# Altium integrated library TI Amplifiers and Linear Special Function Amplifier.IntLib: 708 symbols (part 23 of 47)
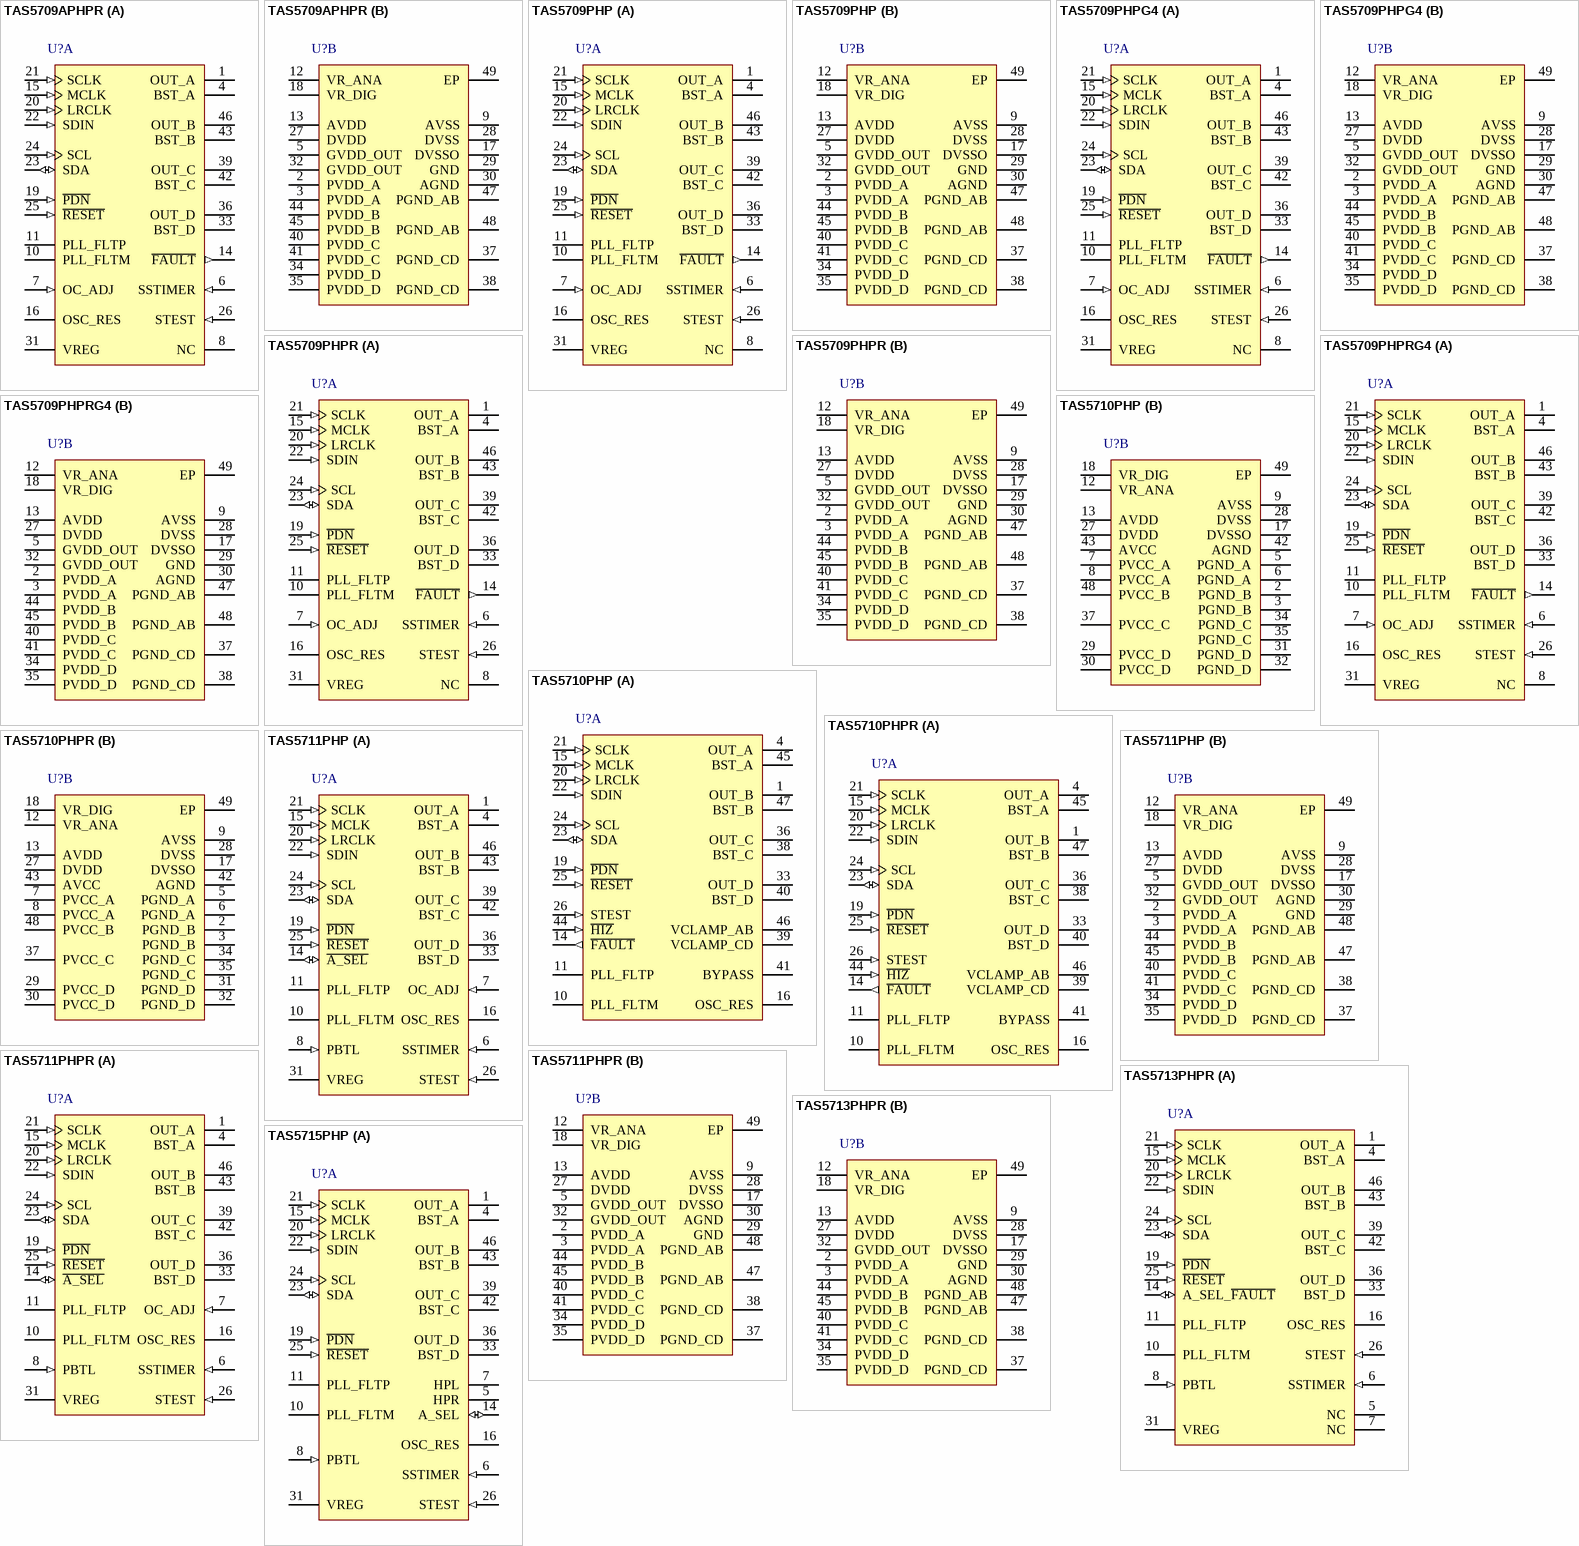
[diagram p61: symbols TAS5709APHPR to TAS5715PHP]

## TAS5711PHP
designator U?
20 W Stereo I2S Audio Amplifier with Speaker EQ, DRC, and 2.1 Support, 0 to 85 degC, 48-pin QFP (PHP48), Green (RoHS & no Sb/Br); Manufacturer: Texas Instruments; PartNumber: TAS5711PHP; Analog Supply Max [V]: 3.6; Analog Supply Min [V]: 3; Input Type: Digital; Power Stage Supply Min(V): 8; SubFamily: Mid/High-Power Amplifier; DatasheetVersion: SLOS600A; PackageVersion: 4146927/B, 08/2003; PackageReference: PHP48-4550X3600TP; PackageDescription: 48-Pin PowerPAD(TM) Plastic Quad Flatpack, Body 7 x 7 mm, Pitch 0.5 mm; Supplier 1: Digi-Key; Supplier Part Number 1: 296-32732-ND; Supplier 2: Farnell; Supplier Part Number 2: 1815744; Supplier 3: Newark; Supplier Part Number 3: 60R2429; Supplier 4: Mouser; Supplier Part Number 4: 595-TAS5711PHP; Digital Supply Min [V]: 3; Eco-Plan: Green (RoHS & no Sb/Br); Max. Number of Speaker Outputs: 3; Mounting Technology: Surface Mount; Code_JEDEC: MS-026; ComponentLink1Description: Manufacturer URL; ComponentLink1URL: http://www.ti.com/; ComponentLink2Description: Datasheet; ComponentLink2URL: http://www.ti.com/general/docs/lit/getliterature.tsp?genericPartNumber=TAS5711&fileType=pdf; ComponentLink3Description: Package Specification; ComponentLink3URL: http://www.ti.com/litv/pdf/mpdi001b
footprint TI-PHP48-4550X3600TP_N (QFP, 48-Leads, Body 7x7mm, Pitch 0.5mm, Thermal Pad 5.17x4.04mm, IPC Medium Density)
footprint TI-PHP48-4550X3600TP_L (QFP, 48-Leads, Body 7x7mm, Pitch 0.5mm, Thermal Pad 5.17x4.04mm, IPC High Density)
footprint TI-PHP48-4550X3600TP_M (QFP, 48-Leads, Body 7x7mm, Pitch 0.5mm, Thermal Pad 5.17x4.04mm, IPC Low Density)
part A pins: 1 OUT_A (hiz) "Output, half-bridge A", 4 BST_A "High-side bootstrap supply for half-bridge A", 6 SSTIMER (in) "Controls ramp time of OUT_x to minimize pop. Leave this pin floating for BD mode. Requires capacitor of 2.2 nF to GND in AD mode. The capacitor determines the ramp time.", 7 OC_ADJ (in) "Analog overcurrent programming. Requires resistor to ground.", 8 PBTL (in) "Low means BTL or SE mode; high means PBTL mode. Information goes directly to power stage.", 10 PLL_FLTM "PLL negative loop filter terminal", 11 PLL_FLTP "PLL positive loop filter terminal", 14 ~{A_SEL} (io) "A value of 0 (15-kohm pulldown) makes the I2C device address 0x34, and a value of 1 (15-kohm pullup) makes it 0x36. This pin can be programmed after RESET to be an output by writing 1 to bit 0 of I2C register 0x05. In that (See Datasheet)", 15 MCLK (in) "Master clock input", 16 OSC_RES "Oscillator trim resistor. Connect an 18.2-kohm 1% resistor to DVSSO.", 19 ~{PDN} (in) "Power down, active-low. P\D\N\ prepares the device for loss of power supplies by shutting down the Noise Shaper and initiating PWM stop sequence.", 20 LRCLK (in) "Input serial audio data left/right clock (sample rate clock)", 21 SCLK (in) "Serial audio data clock (shift clock). SCLK is the serial audio port input data bit clock.", 22 SDIN (in) "Serial audio data input. SDIN supports three discrete (stereo) data formats.", 23 SDA (io) "I2C serial control data interface input/output", 24 SCL (in) "I2C serial control clock input", 25 ~{RESET} (in) "Reset, active-low. A system reset is generated by applying a logic low to this pin. R\E\S\E\T\ is an asynchronous control signal that restores the DAP to its default conditions, and places the PWM in the hard mute state (See Datasheet)", 26 STEST (in) "Factory test pin. Connect directly to DVSS.", 31 VREG "Digital regulator output. Not to be used for powering external circuitry.", 33 BST_D "High-side bootstrap supply for half-bridge D", 36 OUT_D (hiz) "Output, half-bridge D", 39 OUT_C (hiz) "Output, half-bridge C", 42 BST_C "High-side bootstrap supply for half-bridge C", 43 BST_B "High-side bootstrap supply for half-bridge B", 46 OUT_B (hiz) "Output, half-bridge B"
part B pins: 2 PVDD_A (power) "Power supply input for half-bridge output A", 3 PVDD_A (power) "Power supply input for half-bridge output A", 5 GVDD_OUT (power) "Gate drive internal regulator output. This pin must not be used to drive external devices.", 9 AVSS (power) "Analog 3.3-V supply ground", 12 VR_ANA (power) "Internally regulated 1.8-V analog supply voltage. This pin must not be used to power external devices.", 13 AVDD (power) "3.3-V analog power supply", 17 DVSSO (power) "Oscillator ground", 18 VR_DIG (power) "Internally regulated 1.8-V digital supply voltage. This pin must not be used to power external devices.", 27 DVDD (power) "3.3-V digital power supply", 28 DVSS (power) "Digital ground", 29 GND (power) "Analog ground for power stage", 30 AGND (power) "Analog ground for power stage", 32 GVDD_OUT (power) "Gate drive internal regulator output. This pin must not be used to drive external devices.", 34 PVDD_D (power) "Power supply input for half-bridge output D", 35 PVDD_D (power) "Power supply input for half-bridge output D", 37 PGND_CD (power) "Power ground for half-bridges C and D", 38 PGND_CD (power) "Power ground for half-bridges C and D", 40 PVDD_C (power) "Power supply input for half-bridge output C", 41 PVDD_C (power) "Power supply input for half-bridge output C", 44 PVDD_B (power) "Power supply input for half-bridge output B", 45 PVDD_B (power) "Power supply input for half-bridge output B", 47 PGND_AB (power) "Power ground for half-bridges A and B", 48 PGND_AB (power) "Power ground for half-bridges A and B", 49 EP

## TAS5711PHPR
designator U?
20 W Stereo I2S Audio Amplifier with Speaker EQ, DRC, and 2.1 Support, 0 to 85 degC, 48-pin QFP (PHP48), Green (RoHS & no Sb/Br); Manufacturer: Texas Instruments; PartNumber: TAS5711PHPR; Analog Supply Max [V]: 3.6; Analog Supply Min [V]: 3; Input Type: Digital; Power Stage Supply Min(V): 8; SubFamily: Mid/High-Power Amplifier; DatasheetVersion: SLOS600A; PackageVersion: 4146927/B, 08/2003; PackageReference: PHP48-4550X3600TP; PackageDescription: 48-Pin PowerPAD(TM) Plastic Quad Flatpack, Body 7 x 7 mm, Pitch 0.5 mm; Supplier 1: Digi-Key; Supplier Part Number 1: 296-25564-2-ND; Supplier 2: Digi-Key; Supplier Part Number 2: 296-25564-1-ND; Supplier 3: Digi-Key; Supplier Part Number 3: 296-25564-6-ND; Supplier 4: Newark; Supplier Part Number 4: 64R0655; Supplier 5: Mouser; Supplier Part Number 5: 595-TAS5711PHPR; Digital Supply Min [V]: 3; Eco-Plan: Green (RoHS & no Sb/Br); Max. Number of Speaker Outputs: 3; Mounting Technology: Surface Mount; Code_JEDEC: MS-026; ComponentLink1Description: Manufacturer URL; ComponentLink1URL: http://www.ti.com/; ComponentLink2Description: Datasheet; ComponentLink2URL: http://www.ti.com/general/docs/lit/getliterature.tsp?genericPartNumber=TAS5711&fileType=pdf; ComponentLink3Description: Package Specification; ComponentLink3URL: http://www.ti.com/litv/pdf/mpdi001b
footprint TI-PHP48-4550X3600TP_N (QFP, 48-Leads, Body 7x7mm, Pitch 0.5mm, Thermal Pad 5.17x4.04mm, IPC Medium Density)
footprint TI-PHP48-4550X3600TP_L (QFP, 48-Leads, Body 7x7mm, Pitch 0.5mm, Thermal Pad 5.17x4.04mm, IPC High Density)
footprint TI-PHP48-4550X3600TP_M (QFP, 48-Leads, Body 7x7mm, Pitch 0.5mm, Thermal Pad 5.17x4.04mm, IPC Low Density)
part A pins: 1 OUT_A (hiz) "Output, half-bridge A", 4 BST_A "High-side bootstrap supply for half-bridge A", 6 SSTIMER (in) "Controls ramp time of OUT_x to minimize pop. Leave this pin floating for BD mode. Requires capacitor of 2.2 nF to GND in AD mode. The capacitor determines the ramp time.", 7 OC_ADJ (in) "Analog overcurrent programming. Requires resistor to ground.", 8 PBTL (in) "Low means BTL or SE mode; high means PBTL mode. Information goes directly to power stage.", 10 PLL_FLTM "PLL negative loop filter terminal", 11 PLL_FLTP "PLL positive loop filter terminal", 14 ~{A_SEL} (io) "A value of 0 (15-kohm pulldown) makes the I2C device address 0x34, and a value of 1 (15-kohm pullup) makes it 0x36. This pin can be programmed after RESET to be an output by writing 1 to bit 0 of I2C register 0x05. In that (See Datasheet)", 15 MCLK (in) "Master clock input", 16 OSC_RES "Oscillator trim resistor. Connect an 18.2-kohm 1% resistor to DVSSO.", 19 ~{PDN} (in) "Power down, active-low. P\D\N\ prepares the device for loss of power supplies by shutting down the Noise Shaper and initiating PWM stop sequence.", 20 LRCLK (in) "Input serial audio data left/right clock (sample rate clock)", 21 SCLK (in) "Serial audio data clock (shift clock). SCLK is the serial audio port input data bit clock.", 22 SDIN (in) "Serial audio data input. SDIN supports three discrete (stereo) data formats.", 23 SDA (io) "I2C serial control data interface input/output", 24 SCL (in) "I2C serial control clock input", 25 ~{RESET} (in) "Reset, active-low. A system reset is generated by applying a logic low to this pin. R\E\S\E\T\ is an asynchronous control signal that restores the DAP to its default conditions, and places the PWM in the hard mute state (See Datasheet)", 26 STEST (in) "Factory test pin. Connect directly to DVSS.", 31 VREG "Digital regulator output. Not to be used for powering external circuitry.", 33 BST_D "High-side bootstrap supply for half-bridge D", 36 OUT_D (hiz) "Output, half-bridge D", 39 OUT_C (hiz) "Output, half-bridge C", 42 BST_C "High-side bootstrap supply for half-bridge C", 43 BST_B "High-side bootstrap supply for half-bridge B", 46 OUT_B (hiz) "Output, half-bridge B"
part B pins: 2 PVDD_A (power) "Power supply input for half-bridge output A", 3 PVDD_A (power) "Power supply input for half-bridge output A", 5 GVDD_OUT (power) "Gate drive internal regulator output. This pin must not be used to drive external devices.", 9 AVSS (power) "Analog 3.3-V supply ground", 12 VR_ANA (power) "Internally regulated 1.8-V analog supply voltage. This pin must not be used to power external devices.", 13 AVDD (power) "3.3-V analog power supply", 17 DVSSO (power) "Oscillator ground", 18 VR_DIG (power) "Internally regulated 1.8-V digital supply voltage. This pin must not be used to power external devices.", 27 DVDD (power) "3.3-V digital power supply", 28 DVSS (power) "Digital ground", 29 GND (power) "Analog ground for power stage", 30 AGND (power) "Analog ground for power stage", 32 GVDD_OUT (power) "Gate drive internal regulator output. This pin must not be used to drive external devices.", 34 PVDD_D (power) "Power supply input for half-bridge output D", 35 PVDD_D (power) "Power supply input for half-bridge output D", 37 PGND_CD (power) "Power ground for half-bridges C and D", 38 PGND_CD (power) "Power ground for half-bridges C and D", 40 PVDD_C (power) "Power supply input for half-bridge output C", 41 PVDD_C (power) "Power supply input for half-bridge output C", 44 PVDD_B (power) "Power supply input for half-bridge output B", 45 PVDD_B (power) "Power supply input for half-bridge output B", 47 PGND_AB (power) "Power ground for half-bridges A and B", 48 PGND_AB (power) "Power ground for half-bridges A and B", 49 EP

## TAS5713PHPR
designator U?
25 W Stereo I2S Audio Amplifier with Speaker EQ and 2-Band DRC, 0 to 85 degC, 48-pin QFP (PHP48), Green (RoHS & no Sb/Br); Manufacturer: Texas Instruments; PartNumber: TAS5713PHPR; Analog Supply Max [V]: 3.6; Analog Supply Min [V]: 3; Input Type: Digital; Max. Number of Speaker Outputs: 2; Power Stage Supply Min(V): 8; SubFamily: Mid/High-Power Amplifier; DatasheetVersion: SLOS637A; PackageVersion: 4146927/B, 08/2003; PackageReference: PHP48-4550X3600TP; PackageDescription: 48-Pin PowerPAD(TM) Plastic Quad Flatpack, Body 7 x 7 mm, Pitch 0.5 mm; Supplier 1: Digi-Key; Supplier Part Number 1: 296-25580-2-ND; Supplier 2: Digi-Key; Supplier Part Number 2: 296-25580-1-ND; Supplier 3: Digi-Key; Supplier Part Number 3: 296-25580-6-ND; Supplier 4: Newark; Supplier Part Number 4: 64R0656; Supplier 5: Mouser; Supplier Part Number 5: 595-TAS5713PHPR; Digital Supply Min [V]: 3; Eco-Plan: Green (RoHS & no Sb/Br); Mounting Technology: Surface Mount; Code_JEDEC: MS-026; ComponentLink1Description: Manufacturer URL; ComponentLink1URL: http://www.ti.com/; ComponentLink2Description: Datasheet; ComponentLink2URL: http://www.ti.com/general/docs/lit/getliterature.tsp?genericPartNumber=TAS5713&fileType=pdf; ComponentLink3Description: Package Specification; ComponentLink3URL: http://www.ti.com/litv/pdf/mpdi001b
footprint TI-PHP48-4550X3600TP_N (QFP, 48-Leads, Body 7x7mm, Pitch 0.5mm, Thermal Pad 5.17x4.04mm, IPC Medium Density)
footprint TI-PHP48-4550X3600TP_L (QFP, 48-Leads, Body 7x7mm, Pitch 0.5mm, Thermal Pad 5.17x4.04mm, IPC High Density)
footprint TI-PHP48-4550X3600TP_M (QFP, 48-Leads, Body 7x7mm, Pitch 0.5mm, Thermal Pad 5.17x4.04mm, IPC Low Density)
part A pins: 1 OUT_A (hiz) "Output, half-bridge A", 4 BST_A "High-side bootstrap supply for half-bridge A", 5 NC "No connect", 6 SSTIMER (in) "Controls ramp time of OUT_x to minimize pop. Leave this pin floating for BD mode. Requires capacitor of 2.2 nF to GND in AD mode. The capacitor determines the ramp time.", 7 NC "No connect", 8 PBTL (in) "Low means BTL or SE mode; high means PBTL mode. Information goes directly to power stage.", 10 PLL_FLTM "PLL negative loop filter terminal", 11 PLL_FLTP "PLL positive loop filter terminal", 14 A_SEL_~{FAULT} (io) "This pin is monitored on the rising edge of R\E\S\E\T\. A value of 0 (15-kohm pulldown) sets the I2C device address to 0x34 and a value of 1 (15-kohm pullup) sets it to 0x36. this dual-function pin can be programmed to (See Datasheet)", 15 MCLK (in) "Master clock input", 16 OSC_RES "Oscillator trim resistor. Connect an 18.2-kohm, 1% resistor to DVSSO.", 19 ~{PDN} (in) "Power down, active-low. P\D\N\ prepares the device for loss of power supplies by shutting down the Noise Shaper and initiating PWM stop sequence.", 20 LRCLK (in) "Input serial audio data left/right clock (sample rate clock)", 21 SCLK (in) "Serial audio data clock (shift clock). SCLK is the serial audio port input data bit clock.", 22 SDIN (in) "Serial audio data input. SDIN supports three discrete (stereo) data formats.", 23 SDA (io) "I2C serial control data interface input/output", 24 SCL (in) "I2C serial control clock input", 25 ~{RESET} (in) "Reset, active-low. A system reset is generated by applying a logic low to this pin. R\E\S\E\T\ is an asynchronous control signal that restores the DAP to its default conditions and places the PWM in the hard-mute (See Datasheet)", 26 STEST (in) "Factory test pin. Connect directly to DVSS.", 31 VREG "Digital regulator output. Not to be used for powering external circuitry.", 33 BST_D "High-side bootstrap supply for half-bridge D", 36 OUT_D (hiz) "Output, half-bridge D", 39 OUT_C (hiz) "Output, half-bridge C", 42 BST_C "High-side bootstrap supply for half-bridge C", 43 BST_B "High-side bootstrap supply for half-bridge B", 46 OUT_B (hiz) "Output, half-bridge B"
part B pins: 2 PVDD_A (power) "Power supply input for half-bridge output A", 3 PVDD_A (power) "Power supply input for half-bridge output A", 9 AVSS (power) "Analog 3.3-V supply ground", 12 VR_ANA (power) "Internally regulated 1.8-V analog supply voltage. This pin must not be used to power external devices.", 13 AVDD (power) "3.3-V analog power supply", 17 DVSSO (power) "Oscillator ground", 18 VR_DIG (power) "Internally regulated 1.8-V digital supply voltage. This pin must not be used to power external devices.", 27 DVDD (power) "3.3-V digital power supply", 28 DVSS (power) "Digital ground", 29 GND (power) "Analog ground for power stage", 30 AGND (power) "Local analog ground for power stage", 32 GVDD_OUT (power) "Gate drive internal regulator output", 34 PVDD_D (power) "Power supply input for half-bridge output D", 35 PVDD_D (power) "Power supply input for half-bridge output D", 37 PGND_CD (power) "Power ground for half-bridges C and D", 38 PGND_CD (power) "Power ground for half-bridges C and D", 40 PVDD_C (power) "Power supply input for half-bridge output C", 41 PVDD_C (power) "Power supply input for half-bridge output C", 44 PVDD_B (power) "Power supply input for half-bridge output B", 45 PVDD_B (power) "Power supply input for half-bridge output B", 47 PGND_AB (power) "Power ground for half-bridges A and B", 48 PGND_AB (power) "Power ground for half-bridges A and B", 49 EP

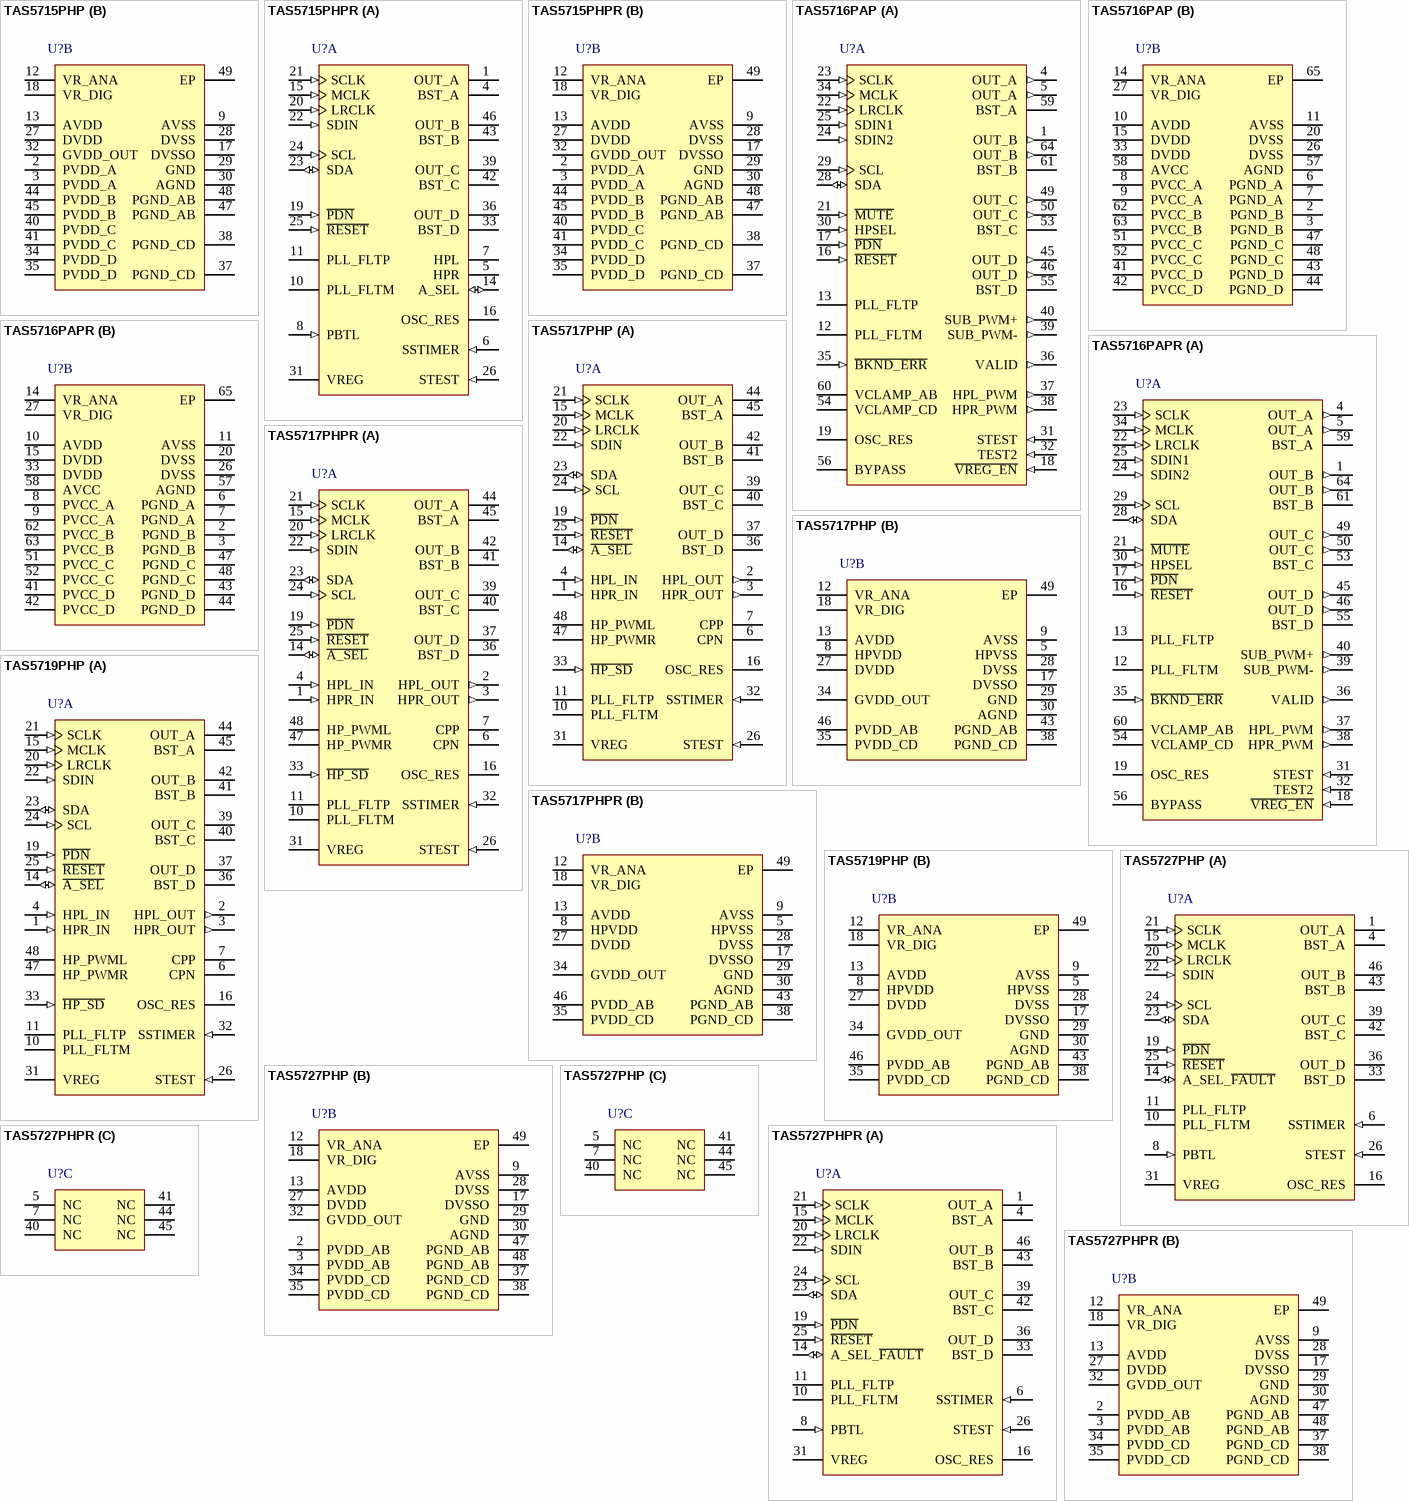
[diagram p22: symbols TAS5715PHP to TAS5727PHPR]

## TAS5715PHP
designator U?
25 W Stereo I2S Audio Amplifier with Speaker EQ, 2-Band DRC, and DC Protection, 0 to 85 degC, 48-pin QFP (PHP48), Green (RoHS & no Sb/Br); Manufacturer: Texas Instruments; PartNumber: TAS5715PHP; Analog Supply Max [V]: 3.6; Analog Supply Min [V]: 3; Input Type: Digital; Max. Number of Speaker Outputs: 2; Power Stage Supply Min(V): 8; SubFamily: Mid/High-Power Amplifier; DatasheetVersion: SLOS645; PackageVersion: 4146927/B, 08/2003; PackageReference: PHP48-4550X3600TP; PackageDescription: 48-Pin PowerPAD(TM) Plastic Quad Flatpack, Body 7 x 7 mm, Pitch 0.5 mm; Supplier 1: Digi-Key; Supplier Part Number 1: 296-32734-ND; Supplier 2: Newark; Supplier Part Number 2: 01T0701; Supplier 3: Mouser; Supplier Part Number 3: 595-TAS5715PHP; Digital Supply Min [V]: 3; Eco-Plan: Green (RoHS & no Sb/Br); Mounting Technology: Surface Mount; Code_JEDEC: MS-026; ComponentLink1Description: Manufacturer URL; ComponentLink1URL: http://www.ti.com/; ComponentLink2Description: Datasheet; ComponentLink2URL: http://www.ti.com/general/docs/lit/getliterature.tsp?genericPartNumber=TAS5715&fileType=pdf; ComponentLink3Description: Package Specification; ComponentLink3URL: http://www.ti.com/litv/pdf/mpdi001b
footprint TI-PHP48-4550X3600TP_N (QFP, 48-Leads, Body 7x7mm, Pitch 0.5mm, Thermal Pad 5.17x4.04mm, IPC Medium Density)
footprint TI-PHP48-4550X3600TP_L (QFP, 48-Leads, Body 7x7mm, Pitch 0.5mm, Thermal Pad 5.17x4.04mm, IPC High Density)
footprint TI-PHP48-4550X3600TP_M (QFP, 48-Leads, Body 7x7mm, Pitch 0.5mm, Thermal Pad 5.17x4.04mm, IPC Low Density)
part A pins: 1 OUT_A (hiz) "Output, half-bridge A", 4 BST_A "High-side bootstrap supply for half-bridge A", 5 HPR (hiz) "Headphone PWM out (HPR) (leave floating if unused)", 6 SSTIMER (in) "Controls ramp time of OUT_x to minimize pop. Leave this pin floating for BD mode. Requires capacitor of 2.2 nF to GND in AD mode. The capacitor determines the ramp time.", 7 HPL (hiz) "Headphone PWM out (HPL) (leave floating if unused)", 8 PBTL (in) "Low means BTL or SE mode; high means PBTL mode. Information goes directly to power stage.", 10 PLL_FLTM "PLL negative loop filter terminal", 11 PLL_FLTP "PLL positive loop filter terminal", 14 A_SEL (io) "This pin is monitored on the rising edge of R\E\S\E\T\. A value of 0 makes the I2C dev address 0x54 and a value of 1 makes it 0x56. This pin can be re-used after reset as external HP amplifer shutdown signal.", 15 MCLK (in) "Master clock input", 16 OSC_RES "Oscillator trim resistor. Connect an 18-kohm 1% resistor to DVSSO.", 19 ~{PDN} (in) "Power down, active-low. P\D\N\ prepares the device for loss of power supplies by shutting down the Noise Shaper and initiating PWM stop sequence.", 20 LRCLK (in) "Input serial audio data left/right clock (sample rate clock)", 21 SCLK (in) "Serial audio data clock (shift clock). SCLK is the serial audio port input data bit clock.", 22 SDIN (in) "Serial audio data input. SDIN supports three discrete (stereo) data formats.", 23 SDA (io) "I2C serial control data interface input/output", 24 SCL (in) "I2C serial control clock input", 25 ~{RESET} (in) "Reset, active-low. A system reset is generated by applying a logic low to this pin. R\E\S\E\T\ is an asynchronous control signal that restores the DAP to its default conditions, and places the PWM in the hard mute state (See Datasheet)", 26 STEST (in) "Factory test pin. Connect directly to DVSS.", 31 VREG "Digital regulator output. Not to be used for powering external circuitry.", 33 BST_D "High-side bootstrap supply for half-bridge D", 36 OUT_D (hiz) "Output, half-bridge D", 39 OUT_C (hiz) "Output, half-bridge C", 42 BST_C "High-side bootstrap supply for half-bridge C", 43 BST_B "High-side bootstrap supply for half-bridge B", 46 OUT_B (hiz) "Output, half-bridge B"
part B pins: 2 PVDD_A (power) "Power supply input for half-bridge output A", 3 PVDD_A (power) "Power supply input for half-bridge output A", 9 AVSS (power) "Analog 3.3-V supply ground", 12 VR_ANA (power) "Internally regulated 1.8-V analog supply voltage. This pin must not be used to power external devices.", 13 AVDD (power) "3.3-V analog power supply", 17 DVSSO (power) "Oscillator ground", 18 VR_DIG (power) "Internally regulated 1.8-V digital supply voltage. This pin must not be used to power external devices.", 27 DVDD (power) "3.3-V digital power supply", 28 DVSS (power) "Digital ground", 29 GND (power) "Analog ground for power stage", 30 AGND (power) "Analog ground for power stage", 32 GVDD_OUT (power) "Gate drive internal regulator output", 34 PVDD_D (power) "Power supply input for half-bridge output D", 35 PVDD_D (power) "Power supply input for half-bridge output D", 37 PGND_CD (power) "Power ground for half-bridges C and D", 38 PGND_CD (power) "Power ground for half-bridges C and D", 40 PVDD_C (power) "Power supply input for half-bridge output C", 41 PVDD_C (power) "Power supply input for half-bridge output C", 44 PVDD_B (power) "Power supply input for half-bridge output B", 45 PVDD_B (power) "Power supply input for half-bridge output B", 47 PGND_AB (power) "Power ground for half-bridges A and B", 48 PGND_AB (power) "Power ground for half-bridges A and B", 49 EP

## TAS5715PHPR
designator U?
25 W Stereo I2S Audio Amplifier with Speaker EQ, 2-Band DRC, and DC Protection, 0 to 85 degC, 48-pin QFP (PHP48), Green (RoHS & no Sb/Br); Manufacturer: Texas Instruments; PartNumber: TAS5715PHPR; Analog Supply Max [V]: 3.6; Analog Supply Min [V]: 3; Input Type: Digital; Max. Number of Speaker Outputs: 2; Power Stage Supply Min(V): 8; SubFamily: Mid/High-Power Amplifier; DatasheetVersion: SLOS645; PackageVersion: 4146927/B, 08/2003; PackageReference: PHP48-4550X3600TP; PackageDescription: 48-Pin PowerPAD(TM) Plastic Quad Flatpack, Body 7 x 7 mm, Pitch 0.5 mm; Supplier 1: Digi-Key; Supplier Part Number 1: 296-27753-2-ND; Supplier 2: Digi-Key; Supplier Part Number 2: 296-27753-1-ND; Supplier 3: Digi-Key; Supplier Part Number 3: 296-27753-6-ND; Supplier 4: Farnell; Supplier Part Number 4: 1862565; Supplier 5: Farnell; Supplier Part Number 5: 1844730; Supplier 6: Newark; Supplier Part Number 6: 91R0765; Supplier 7: Mouser; Supplier Part Number 7: 595-TAS5715PHPR; Digital Supply Min [V]: 3; Eco-Plan: Green (RoHS & no Sb/Br); Mounting Technology: Surface Mount; Code_JEDEC: MS-026; ComponentLink1Description: Manufacturer URL; ComponentLink1URL: http://www.ti.com/; ComponentLink2Description: Datasheet; ComponentLink2URL: http://www.ti.com/general/docs/lit/getliterature.tsp?genericPartNumber=TAS5715&fileType=pdf; ComponentLink3Description: Package Specification; ComponentLink3URL: http://www.ti.com/litv/pdf/mpdi001b
footprint TI-PHP48-4550X3600TP_N (QFP, 48-Leads, Body 7x7mm, Pitch 0.5mm, Thermal Pad 5.17x4.04mm, IPC Medium Density)
footprint TI-PHP48-4550X3600TP_L (QFP, 48-Leads, Body 7x7mm, Pitch 0.5mm, Thermal Pad 5.17x4.04mm, IPC High Density)
footprint TI-PHP48-4550X3600TP_M (QFP, 48-Leads, Body 7x7mm, Pitch 0.5mm, Thermal Pad 5.17x4.04mm, IPC Low Density)
part A pins: 1 OUT_A (hiz) "Output, half-bridge A", 4 BST_A "High-side bootstrap supply for half-bridge A", 5 HPR (hiz) "Headphone PWM out (HPR) (leave floating if unused)", 6 SSTIMER (in) "Controls ramp time of OUT_x to minimize pop. Leave this pin floating for BD mode. Requires capacitor of 2.2 nF to GND in AD mode. The capacitor determines the ramp time.", 7 HPL (hiz) "Headphone PWM out (HPL) (leave floating if unused)", 8 PBTL (in) "Low means BTL or SE mode; high means PBTL mode. Information goes directly to power stage.", 10 PLL_FLTM "PLL negative loop filter terminal", 11 PLL_FLTP "PLL positive loop filter terminal", 14 A_SEL (io) "This pin is monitored on the rising edge of R\E\S\E\T\. A value of 0 makes the I2C dev address 0x54 and a value of 1 makes it 0x56. This pin can be re-used after reset as external HP amplifer shutdown signal.", 15 MCLK (in) "Master clock input", 16 OSC_RES "Oscillator trim resistor. Connect an 18-kohm 1% resistor to DVSSO.", 19 ~{PDN} (in) "Power down, active-low. P\D\N\ prepares the device for loss of power supplies by shutting down the Noise Shaper and initiating PWM stop sequence.", 20 LRCLK (in) "Input serial audio data left/right clock (sample rate clock)", 21 SCLK (in) "Serial audio data clock (shift clock). SCLK is the serial audio port input data bit clock.", 22 SDIN (in) "Serial audio data input. SDIN supports three discrete (stereo) data formats.", 23 SDA (io) "I2C serial control data interface input/output", 24 SCL (in) "I2C serial control clock input", 25 ~{RESET} (in) "Reset, active-low. A system reset is generated by applying a logic low to this pin. R\E\S\E\T\ is an asynchronous control signal that restores the DAP to its default conditions, and places the PWM in the hard mute state (See Datasheet)", 26 STEST (in) "Factory test pin. Connect directly to DVSS.", 31 VREG "Digital regulator output. Not to be used for powering external circuitry.", 33 BST_D "High-side bootstrap supply for half-bridge D", 36 OUT_D (hiz) "Output, half-bridge D", 39 OUT_C (hiz) "Output, half-bridge C", 42 BST_C "High-side bootstrap supply for half-bridge C", 43 BST_B "High-side bootstrap supply for half-bridge B", 46 OUT_B (hiz) "Output, half-bridge B"
part B pins: 2 PVDD_A (power) "Power supply input for half-bridge output A", 3 PVDD_A (power) "Power supply input for half-bridge output A", 9 AVSS (power) "Analog 3.3-V supply ground", 12 VR_ANA (power) "Internally regulated 1.8-V analog supply voltage. This pin must not be used to power external devices.", 13 AVDD (power) "3.3-V analog power supply", 17 DVSSO (power) "Oscillator ground", 18 VR_DIG (power) "Internally regulated 1.8-V digital supply voltage. This pin must not be used to power external devices.", 27 DVDD (power) "3.3-V digital power supply", 28 DVSS (power) "Digital ground", 29 GND (power) "Analog ground for power stage", 30 AGND (power) "Analog ground for power stage", 32 GVDD_OUT (power) "Gate drive internal regulator output", 34 PVDD_D (power) "Power supply input for half-bridge output D", 35 PVDD_D (power) "Power supply input for half-bridge output D", 37 PGND_CD (power) "Power ground for half-bridges C and D", 38 PGND_CD (power) "Power ground for half-bridges C and D", 40 PVDD_C (power) "Power supply input for half-bridge output C", 41 PVDD_C (power) "Power supply input for half-bridge output C", 44 PVDD_B (power) "Power supply input for half-bridge output B", 45 PVDD_B (power) "Power supply input for half-bridge output B", 47 PGND_AB (power) "Power ground for half-bridges A and B", 48 PGND_AB (power) "Power ground for half-bridges A and B", 49 EP

## TAS5716PAP
designator U?
20 W Stereo Closed-Loop I2S Audio Amplifier with Speaker EQ, DRC & 3D / Bass Boost, 0 to 85 degC, 64-pin QFP (PAP64), Green (RoHS & no Sb/Br); Manufacturer: Texas Instruments; PartNumber: TAS5716PAP; Analog Supply Max [V]: 3.6; Analog Supply Min [V]: 3; Input Type: Digital; Max. Number of Speaker Outputs: 4; Power Stage Supply Min(V): 10; SubFamily: Mid/High-Power Amplifier; DatasheetVersion: SLOS569; PackageVersion: 4147702/C, 08/2003; PackageReference: PAP64-4935X4935TP; PackageDescription: 64-Pin Plastic Flat Pack, Body 10 x 10 mm, Pitch 0.5 mm; Supplier 1: Digi-Key; Supplier Part Number 1: 296-32735-ND; Supplier 2: Farnell; Supplier Part Number 2: 1755217; Supplier 3: Newark; Supplier Part Number 3: 99R1978; Supplier 4: Mouser; Supplier Part Number 4: 595-TAS5716PAP; Digital Supply Min [V]: 3; Eco-Plan: Green (RoHS & no Sb/Br); Mounting Technology: Surface Mount; Code_JEDEC: MS-026; ComponentLink1Description: Manufacturer URL; ComponentLink1URL: http://www.ti.com/; ComponentLink2Description: Datasheet; ComponentLink2URL: http://www.ti.com/general/docs/lit/getliterature.tsp?genericPartNumber=TAS5716&fileType=pdf; ComponentLink3Description: Package Specification; ComponentLink3URL: http://www.ti.com/litv/pdf/mpdi001b
footprint TI-PAP64-4935X4935TP_N (QFP, 64-Leads, Body 10x10mm, Pitch 0.5mm, Thermal Pad 5.3x5.3mm, IPC Medium Density)
footprint TI-PAP64-4935X4935TP_L (QFP, 64-Leads, Body 10x10mm, Pitch 0.5mm, Thermal Pad 5.3x5.3mm, IPC High Density)
footprint TI-PAP64-4935X4935TP_M (QFP, 64-Leads, Body 10x10mm, Pitch 0.5mm, Thermal Pad 5.3x5.3mm, IPC Low Density)
part A pins: 1 OUT_B (out) "Output, half-bridge B", 4 OUT_A (out) "Output, half-bridge A", 5 OUT_A (out) "Output, half-bridge A", 12 PLL_FLTM "PLL negative input", 13 PLL_FLTP "PLL positive input", 16 ~{RESET} (in) "Reset, active-low. A system reset is generated by applying a logic low to this terminal. R\E\S\E\T\ is an asynchronous control signal that sets the VALID outputs low, and places the PWM in the hard-mute state stops (See Datasheet)", 17 ~{PDN} (in) "Power down, active-low. P\D\N\ stops all clocks and outputs stop switching. When P\D\N\ is released, the device powers up all logic, starts all clocks, and performs a soft start that returns to the previous configuration. (See Datasheet)", 18 ~{VREG_EN} (in) "Voltage regulator enable. Connect directly to GND.", 19 OSC_RES "Oscillator trim resistor. Connect an 18.2-k ohm resistor to GND.", 21 ~{MUTE} (in) "Performs a soft mute of outputs, active-low. A logic low on this terminal sets the outputs equal to 50% duty cycle. A logic high on this terminal allows normal operation. The mute control provides a noiseless volume ramp to (See Datasheet)", 22 LRCLK (in) "Input serial audio data left/right clock (sampling rate clock)", 23 SCLK (in) "Serial audio data clock (shift clock). SCLK is the serial audio port input data bit clock.", 24 SDIN2 (in) "Serial audio data-2 input is one of the serial data input ports. SDIN2 supports three discrete (stereo) data formats.", 25 SDIN1 (in) "Serial audio data-1 input is one of the serial data input ports. SDIN1 supports three discrete (stereo) data formats.", 28 SDA (io) "I2C serial-control data-interface input/output", 29 SCL (in) "I2C serial-control clock input", 30 HPSEL (in) "Headphone select, active high. When a logic HIGH is applied, device enters headphone mode and speakers are hard-muted. When a logic LOW is applied, device is in speaker mode and headphone outputs become line outputs or are (See Datasheet)", 31 STEST (in) "Test terminal. Connect directly to GND.", 32 TEST2 (in) "Test terminal. Connect directly to DVDD.", 34 MCLK (in) "MCLK is the clock master input. The input frequency of this clock can range from 2.822 MHz to 49 MHz.", 35 ~{BKND_ERR} (in) "Active low. A back-end error sequence is initiated by applying a logic LOW to this pin. Connect to an external power stage. If no external power stage is used, connect directly to DVDD.", 36 VALID (out) "Output indicating validity of all PWM channels, active high. Connect this pin to an external power stage or leave floating.", 37 HPL_PWM (out) "Headphone left-channel PWM output", 38 HPR_PWM (out) "Headphone right-channel PWM output", 39 SUB_PWM- (out) "Subwoofer negative PWM output", 40 SUB_PWM+ (out) "Subwoofer positive PWM output", 45 OUT_D (out) "Output, half-bridge D", 46 OUT_D (out) "Output, half-bridge D", 49 OUT_C (out) "Output, half-bridge C", 50 OUT_C (out) "Output, half-bridge C", 53 BST_C "High-side bootstrap supply for half-bridge C", 54 VCLAMP_CD "Internally generated voltage supply for channels C and D gate drive. Not to be used as a supply or connected to any component other than the decoupling capacitor", 55 BST_D "High-side bootstrap supply for half-bridge D", 56 BYPASS "Nominally equal to VCC/8. Internal reference voltage for analog cells", 59 BST_A "High-side bootstrap supply for half-bridge A", 60 VCLAMP_AB "Internally generated voltage supply for channels A and B gate drive. Not to be used as a supply or connected to any component other than the decoupling capacitor", 61 BST_B "High-side bootstrap supply for half-bridge B", 64 OUT_B (out) "Output, half-bridge B"
part B pins: 2 PGND_B (power) "Power ground for half-bridge B", 3 PGND_B (power) "Power ground for half-bridge B", 6 PGND_A (power) "Power ground for half-bridge A", 7 PGND_A (power) "Power ground for half-bridge A", 8 PVCC_A (power) "Power supply input for half-bridge output A", 9 PVCC_A (power) "Power supply input for half-bridge output A", 10 AVDD (power) "3.3-V analog power supply", 11 AVSS (power) "analog 3.3-V supply ground", 14 VR_ANA (power) "Internally regulated 1.8-V analog supply voltage. This terminal must not be used to power external devices.", 15 DVDD (power) "3.3-V digital power supply", 20 DVSS (power) "Digital ground", 26 DVSS (power) "Digital ground", 27 VR_DIG (power) "Internally regulated 1.8-V digital supply voltage. This terminal must not be used to power external devices.", 33 DVDD (power) "3.3-V digital power supply", 41 PVCC_D (power) "Power supply input for half-bridge output D", 42 PVCC_D (power) "Power supply input for half-bridge output D", 43 PGND_D (power) "Power ground for half-bridge D", 44 PGND_D (power) "Power ground for half-bridge D", 47 PGND_C (power) "Power ground for half-bridge C", 48 PGND_C (power) "Power ground for half-bridge C", 51 PVCC_C (power) "Power supply input for half-bridge output C", 52 PVCC_C (power) "Power supply input for half-bridge output C", 57 AGND (power) "Analog ground for power stage", 58 AVCC (power) "Analog power supply for power stage. Connect externally to same potential as PVCC.", 62 PVCC_B (power) "Power supply input for half-bridge output B", 63 PVCC_B (power) "Power supply input for half-bridge output B", 65 EP

## TAS5716PAPR
designator U?
20 W Stereo Closed-Loop I2S Audio Amplifier with Speaker EQ, DRC & 3D / Bass Boost, 0 to 85 degC, 64-pin QFP (PAP64), Green (RoHS & no Sb/Br); Manufacturer: Texas Instruments; PartNumber: TAS5716PAPR; Analog Supply Max [V]: 3.6; Analog Supply Min [V]: 3; Input Type: Digital; Max. Number of Speaker Outputs: 4; Power Stage Supply Min(V): 10; SubFamily: Mid/High-Power Amplifier; DatasheetVersion: SLOS569; PackageVersion: 4147702/C, 08/2003; PackageReference: PAP64-4935X4935TP; PackageDescription: 64-Pin Plastic Flat Pack, Body 10 x 10 mm, Pitch 0.5 mm; Supplier 1: Digi-Key; Supplier Part Number 1: 296-24134-2-ND; Supplier 2: Digi-Key; Supplier Part Number 2: 296-24134-1-ND; Supplier 3: Digi-Key; Supplier Part Number 3: 296-24134-6-ND; Supplier 4: Mouser; Supplier Part Number 4: 595-TAS5716PAPR; Digital Supply Min [V]: 3; Eco-Plan: Green (RoHS & no Sb/Br); Mounting Technology: Surface Mount; Code_JEDEC: MS-026; ComponentLink1Description: Manufacturer URL; ComponentLink1URL: http://www.ti.com/; ComponentLink2Description: Datasheet; ComponentLink2URL: http://www.ti.com/general/docs/lit/getliterature.tsp?genericPartNumber=TAS5716&fileType=pdf; ComponentLink3Description: Package Specification; ComponentLink3URL: http://www.ti.com/litv/pdf/mpdi001b
footprint TI-PAP64-4935X4935TP_N (QFP, 64-Leads, Body 10x10mm, Pitch 0.5mm, Thermal Pad 5.3x5.3mm, IPC Medium Density)
footprint TI-PAP64-4935X4935TP_L (QFP, 64-Leads, Body 10x10mm, Pitch 0.5mm, Thermal Pad 5.3x5.3mm, IPC High Density)
footprint TI-PAP64-4935X4935TP_M (QFP, 64-Leads, Body 10x10mm, Pitch 0.5mm, Thermal Pad 5.3x5.3mm, IPC Low Density)
part A pins: 1 OUT_B (out) "Output, half-bridge B", 4 OUT_A (out) "Output, half-bridge A", 5 OUT_A (out) "Output, half-bridge A", 12 PLL_FLTM "PLL negative input", 13 PLL_FLTP "PLL positive input", 16 ~{RESET} (in) "Reset, active-low. A system reset is generated by applying a logic low to this terminal. R\E\S\E\T\ is an asynchronous control signal that sets the VALID outputs low, and places the PWM in the hard-mute state stops (See Datasheet)", 17 ~{PDN} (in) "Power down, active-low. P\D\N\ stops all clocks and outputs stop switching. When P\D\N\ is released, the device powers up all logic, starts all clocks, and performs a soft start that returns to the previous configuration. (See Datasheet)", 18 ~{VREG_EN} (in) "Voltage regulator enable. Connect directly to GND.", 19 OSC_RES "Oscillator trim resistor. Connect an 18.2-k ohm resistor to GND.", 21 ~{MUTE} (in) "Performs a soft mute of outputs, active-low. A logic low on this terminal sets the outputs equal to 50% duty cycle. A logic high on this terminal allows normal operation. The mute control provides a noiseless volume ramp to (See Datasheet)", 22 LRCLK (in) "Input serial audio data left/right clock (sampling rate clock)", 23 SCLK (in) "Serial audio data clock (shift clock). SCLK is the serial audio port input data bit clock.", 24 SDIN2 (in) "Serial audio data-2 input is one of the serial data input ports. SDIN2 supports three discrete (stereo) data formats.", 25 SDIN1 (in) "Serial audio data-1 input is one of the serial data input ports. SDIN1 supports three discrete (stereo) data formats.", 28 SDA (io) "I2C serial-control data-interface input/output", 29 SCL (in) "I2C serial-control clock input", 30 HPSEL (in) "Headphone select, active high. When a logic HIGH is applied, device enters headphone mode and speakers are hard-muted. When a logic LOW is applied, device is in speaker mode and headphone outputs become line outputs or are (See Datasheet)", 31 STEST (in) "Test terminal. Connect directly to GND.", 32 TEST2 (in) "Test terminal. Connect directly to DVDD.", 34 MCLK (in) "MCLK is the clock master input. The input frequency of this clock can range from 2.822 MHz to 49 MHz.", 35 ~{BKND_ERR} (in) "Active low. A back-end error sequence is initiated by applying a logic LOW to this pin. Connect to an external power stage. If no external power stage is used, connect directly to DVDD.", 36 VALID (out) "Output indicating validity of all PWM channels, active high. Connect this pin to an external power stage or leave floating.", 37 HPL_PWM (out) "Headphone left-channel PWM output", 38 HPR_PWM (out) "Headphone right-channel PWM output", 39 SUB_PWM- (out) "Subwoofer negative PWM output", 40 SUB_PWM+ (out) "Subwoofer positive PWM output", 45 OUT_D (out) "Output, half-bridge D", 46 OUT_D (out) "Output, half-bridge D", 49 OUT_C (out) "Output, half-bridge C", 50 OUT_C (out) "Output, half-bridge C", 53 BST_C "High-side bootstrap supply for half-bridge C", 54 VCLAMP_CD "Internally generated voltage supply for channels C and D gate drive. Not to be used as a supply or connected to any component other than the decoupling capacitor", 55 BST_D "High-side bootstrap supply for half-bridge D", 56 BYPASS "Nominally equal to VCC/8. Internal reference voltage for analog cells", 59 BST_A "High-side bootstrap supply for half-bridge A", 60 VCLAMP_AB "Internally generated voltage supply for channels A and B gate drive. Not to be used as a supply or connected to any component other than the decoupling capacitor", 61 BST_B "High-side bootstrap supply for half-bridge B", 64 OUT_B (out) "Output, half-bridge B"
part B pins: 2 PGND_B (power) "Power ground for half-bridge B", 3 PGND_B (power) "Power ground for half-bridge B", 6 PGND_A (power) "Power ground for half-bridge A", 7 PGND_A (power) "Power ground for half-bridge A", 8 PVCC_A (power) "Power supply input for half-bridge output A", 9 PVCC_A (power) "Power supply input for half-bridge output A", 10 AVDD (power) "3.3-V analog power supply", 11 AVSS (power) "analog 3.3-V supply ground", 14 VR_ANA (power) "Internally regulated 1.8-V analog supply voltage. This terminal must not be used to power external devices.", 15 DVDD (power) "3.3-V digital power supply", 20 DVSS (power) "Digital ground", 26 DVSS (power) "Digital ground", 27 VR_DIG (power) "Internally regulated 1.8-V digital supply voltage. This terminal must not be used to power external devices.", 33 DVDD (power) "3.3-V digital power supply", 41 PVCC_D (power) "Power supply input for half-bridge output D", 42 PVCC_D (power) "Power supply input for half-bridge output D", 43 PGND_D (power) "Power ground for half-bridge D", 44 PGND_D (power) "Power ground for half-bridge D", 47 PGND_C (power) "Power ground for half-bridge C", 48 PGND_C (power) "Power ground for half-bridge C", 51 PVCC_C (power) "Power supply input for half-bridge output C", 52 PVCC_C (power) "Power supply input for half-bridge output C", 57 AGND (power) "Analog ground for power stage", 58 AVCC (power) "Analog power supply for power stage. Connect externally to same potential as PVCC.", 62 PVCC_B (power) "Power supply input for half-bridge output B", 63 PVCC_B (power) "Power supply input for half-bridge output B", 65 EP

## TAS5717PHP
designator U?
Digital Input Stereo Amplifier with Integrated CAP Free Headphone Amplifier, 0 to 85 degC, 48-pin QFP (PHP48), Green (RoHS & no Sb/Br); Manufacturer: Texas Instruments; PartNumber: TAS5717PHP; Analog Supply Max [V]: 3.6; Analog Supply Min [V]: 3; Max. Number of Speaker Outputs: 2; Power Stage Supply Min(V): 4.5; SubFamily: Mid/High-Power Amplifier; DatasheetVersion: SLOS655A; PackageVersion: 4146927/B, 08/2003; PackageReference: PHP48-4550X3600TP; PackageDescription: 48-Pin PowerPAD(TM) Plastic Quad Flatpack, Body 7 x 7 mm, Pitch 0.5 mm; Supplier 1: Digi-Key; Supplier Part Number 1: TAS5717PHP-ND; Supplier 2: Farnell; Supplier Part Number 2: 1855119; Supplier 3: Newark; Supplier Part Number 3: 23T1393; Supplier 4: Newark; Supplier Part Number 4: 21T4067; Supplier 5: Mouser; Supplier Part Number 5: 595-TAS5717PHP; Digital Supply Min [V]: 3; Eco-Plan: Green (RoHS & no Sb/Br); Input Type: Digital; Mounting Technology: Surface Mount; Code_JEDEC: MS-026; ComponentLink1Description: Manufacturer URL; ComponentLink1URL: http://www.ti.com/; ComponentLink2Description: Datasheet; ComponentLink2URL: http://www.ti.com/general/docs/lit/getliterature.tsp?genericPartNumber=TAS5717&fileType=pdf; ComponentLink3Description: Package Specification; ComponentLink3URL: http://www.ti.com/litv/pdf/mpdi001b
footprint TI-PHP48-4550X3600TP_N (QFP, 48-Leads, Body 7x7mm, Pitch 0.5mm, Thermal Pad 5.17x4.04mm, IPC Medium Density)
footprint TI-PHP48-4550X3600TP_L (QFP, 48-Leads, Body 7x7mm, Pitch 0.5mm, Thermal Pad 5.17x4.04mm, IPC High Density)
footprint TI-PHP48-4550X3600TP_M (QFP, 48-Leads, Body 7x7mm, Pitch 0.5mm, Thermal Pad 5.17x4.04mm, IPC Low Density)
part A pins: 1 HPR_IN (in) "Headphone left IN (single-ended, analog IN)", 2 HPL_OUT (out) "Headphone left OUT (single-ended, analog OUT)", 3 HPR_OUT (out) "Headphone right OUT (single-ended, analog OUT)", 4 HPL_IN (in) "Headphone right IN (single-ended, analog IN)", 6 CPN "Charge-pump flying-capacitor negative connection", 7 CPP "Charge-pump flying-capacitor positive connection", 10 PLL_FLTM "PLL negative loop-filter terminal", 11 PLL_FLTP "PLL positive loop-filter terminal", 14 ~{A_SEL} (io) "This pin is monitored on the rising edge of RESET. A value of 0 makes the I2C dev address 0x54, and a value of 1 makes it 0x56.", 15 MCLK (in) "Master clock input", 16 OSC_RES "Oscillator trim resistor. Connect an 18-kO 1% resistor to DVSSO.", 19 ~{PDN} (in) "Power down, active-low. P\D\N\ prepares the device for loss of power supplies by shutting down the noise shaper and initiating the PWM stop sequence.", 20 LRCLK (in) "Input serial audio data left/right clock (sample rate clock)", 21 SCLK (in) "Serial audio data clock (shift clock). SCLK is the serial audio port input data bit clock.", 22 SDIN (in) "Serial audio data input. SDIN supports three discrete (stereo) data formats.", 23 SDA (io) "I2C serial control data interface input/output", 24 SCL (in) "I2C serial control clock input", 25 ~{RESET} (in) "Reset, active-low. A system reset is generated by applying a logic low to this pin. R\E\S\E\T\ is an asynchronous control signal that restores the DAP to its default conditions, and places the PWM in the hard-mute (See Datasheet)", 26 STEST (in) "Factory test pin. Connect directly to DVSS.", 31 VREG "Digital regulator output. Not to be used for powering external circuitry.", 32 SSTIMER (in) "Controls ramp time of OUT_X to minimize pop. Leave this pin floating for BD mode. Requires capacitor of 2.2 nF to GND in AD mode. The capacitor determines the ramp time.", 33 ~{HP_SD} (in) "Headphone shutdown (active-low)", 36 BST_D "High-side bootstrap supply for half-bridge D", 37 OUT_D (hiz) "Output, half-bridge D", 39 OUT_C (hiz) "Output, half-bridge C", 40 BST_C "High-side bootstrap supply for half-bridge C", 41 BST_B "High-side bootstrap supply for half-bridge B", 42 OUT_B (hiz) "Output, half-bridge B", 44 OUT_A (hiz) "Output, half-bridge A", 45 BST_A "High-side bootstrap supply for half-bridge A", 47 HP_PWMR (hiz) "PWM right-channel headphone out", 48 HP_PWML (hiz) "PWM left-channel headphone out"
part B pins: 5 HPVSS (power) "Headphone ground", 8 HPVDD (power) "Headphone supply", 9 AVSS (power) "Analog 3.3-V supply ground", 12 VR_ANA (power) "Internally regulated 1.8-V analog supply voltage. This pin must not be used to power external devices.", 13 AVDD (power) "3.3-V analog power supply", 17 DVSSO (power) "Oscillator ground", 18 VR_DIG (power) "Internally regulated 1.8-V digital supply voltage. This pin must not be used to power external devices.", 27 DVDD (power) "3.3-V digital power supply", 28 DVSS (power) "Digital ground", 29 GND (power) "Analog ground for power stage", 30 AGND (power) "Analog ground for power stage", 34 GVDD_OUT (power) "Gate drive internal regulator output", 35 PVDD_CD (power) "Power-supply input for half-bridge output C", 38 PGND_CD (power) "Power ground for half-bridges C and D", 43 PGND_AB (power) "Power ground for half-bridges A and B", 46 PVDD_AB (power) "Power-supply input for half-bridge output A", 49 EP